# Altium footprint library TQFN-20_2.5x4.5x05P.PcbLib: 1 footprints
Each footprint in its own frame and in the unit in brackets; x right, y up, seen from the top. Pads: shape width x height; smd on the part's side, far side on the other; paste and mask are expansions set on the pad; w line width, h text height; cw(c..) or ccw(c..) is an arc to the next point about the centre after c.
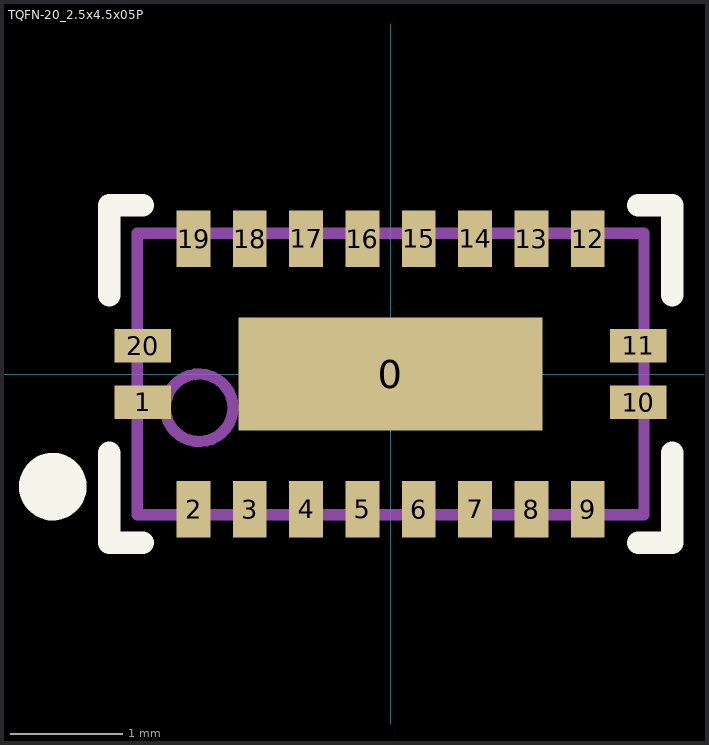
[diagram p0: the footprint, top view; thin cyan lines are the x and y axes]

## TQFN-20_2.5x4.5x05P [mm]
pads (21):
  rect 2.7x1 smd mask+0.051: 0(0,0)
  rect 0.5x0.3 smd mask+0.051: 1(-2.2,-0.25) 10(2.2,-0.25) 11(2.2,0.25) 20(-2.2,0.25)
  rect 0.3x0.5 smd mask+0.051: 2(-1.75,-1.2) 3(-1.25,-1.2) 4(-0.75,-1.2) 5(-0.25,-1.2) 6(0.25,-1.2) 7(0.75,-1.2) 8(1.25,-1.2) 9(1.75,-1.2) 12(1.75,1.2) 13(1.25,1.2) 14(0.75,1.2) 15(0.25,1.2) 16(-0.25,1.2) 17(-0.75,1.2) 18(-1.25,1.2) 19(-1.75,1.2)
Top Overlay:
  circle w0.3: c-3,-1 r0.15
  lines w0.2: -2.5,-0.7 -2.5,-1.5 -2.2,-1.5 ; -2.5,0.7 -2.5,1.5 -2.2,1.5 ; 2.2,-1.5 2.5,-1.5 2.5,-0.7 ; 2.2,1.5 2.5,1.5 2.5,0.7
Mechanical 13:
  circle w0.1: c-1.7,-0.3 r0.3
  lines w0.1: -2.25,-1.25 2.25,-1.25 2.25,1.25 -2.25,1.25 -2.25,-1.25